# Altium footprint library PTV09.PcbLib: 8 footprints
Each footprint in its own frame and in the unit in brackets; x right, y up, seen from the top. Pads: shape width x height; smd on the part's side, far side on the other; paste and mask are expansions set on the pad; w line width, h text height; cw(c..) or ccw(c..) is an arc to the next point about the centre after c.
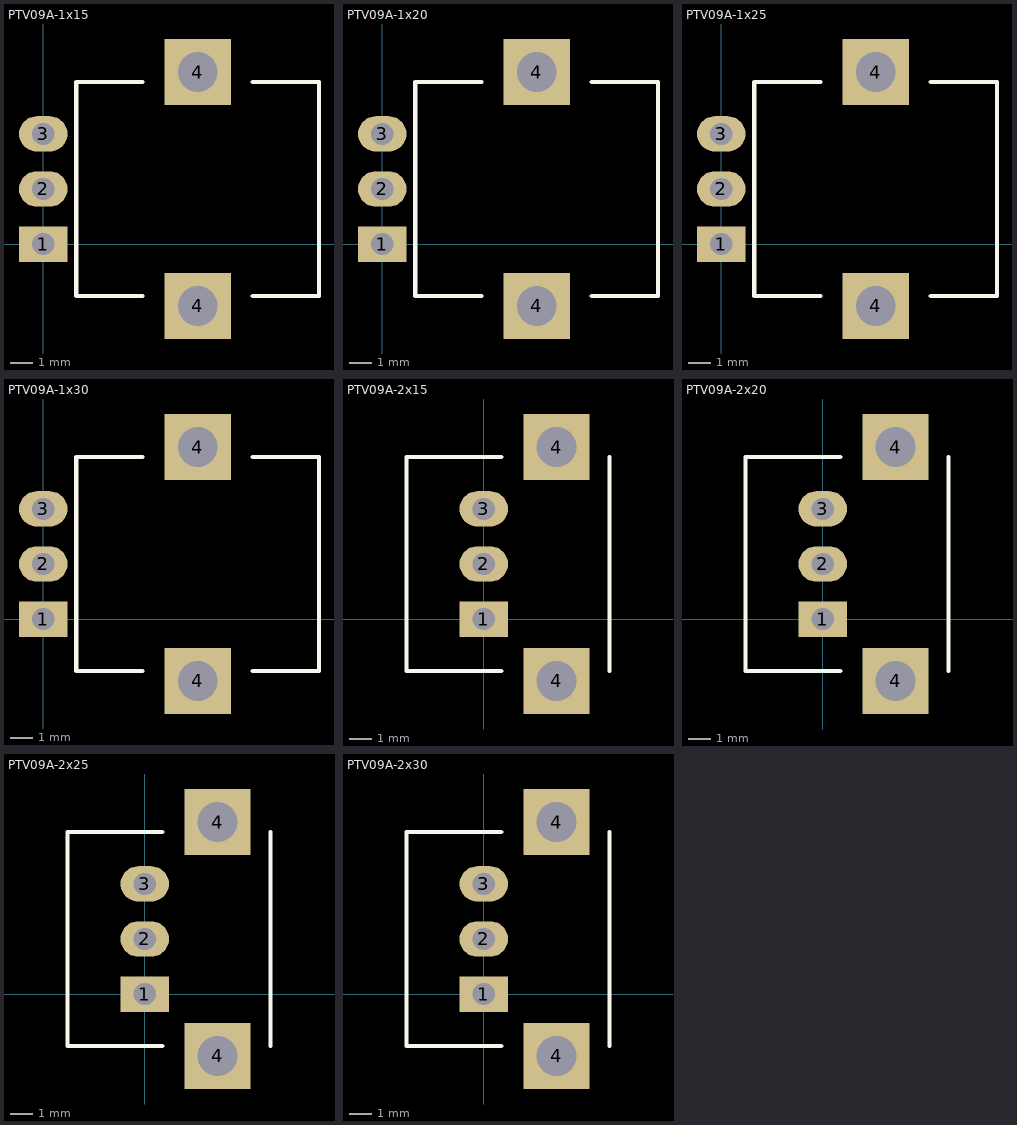
[diagram p0: the footprints below, top view; thin cyan lines are the x and y axes]

## PTV09A-1x15 [mm]
pads (5):
  rect 2.2x1.6 hole 1: 1(0,0)
  oval 2.2x1.6 hole 1: 2(0,2.5) 3(0,5)
  rect 3x3 hole 1.8 square: 4(7,-2.8) 4(7,7.8)
Top Overlay:
  lines w0.2: 4.5,-2.35 1.5,-2.35 1.5,7.35 4.5,7.35 ; 9.5,-2.35 12.5,-2.35 12.5,7.35 9.5,7.35
3D body: height -3, standoff -3.8, extent -0.25,-0.4 0.25,0.4
3D body: height -3, standoff -3.8, extent -0.25,2.1 0.25,2.9
3D body: height -3, standoff -3.8, extent -0.25,4.6 0.25,5.4
3D body: height 15, standoff 2, extent 3.807,-0.698 10.2,5.698
3D body: height 8, standoff 1.2, extent 1.904,-1.949 3.1,-0.751
3D body: height 8, standoff 1.2, extent 10.904,5.751 12.1,6.949
3D body: height 4, standoff 3.5, extent 0,-0.75 1.5,0.75
3D body: height 4, standoff 3.5, extent -0.25,-0.75 0.25,0.75
3D body: height 3.75, standoff 0, extent -0.25,-0.75 0.25,0.75
3D body: height 0, standoff -3.4, extent -0.25,-0.4 0.25,0.4
3D body: height 4, standoff 3.5, extent 0,4.25 1.5,5.75
3D body: height 4, standoff 3.5, extent -0.25,4.25 0.25,5.75
3D body: height 3.75, standoff 0, extent -0.25,4.25 0.25,5.75
3D body: height 0, standoff -3.4, extent -0.25,4.6 0.25,5.4
3D body: height 0, standoff -3.4, extent -0.25,2.1 0.25,2.9
3D body: height 3.75, standoff 0, extent -0.25,1.75 0.25,3.25
3D body: height 4, standoff 3.5, extent -0.25,1.75 0.25,3.25
3D body: height 6.3, standoff 2, extent 1.5,-1.85 12.5,0.7
3D body: height 5.3, standoff 2, extent 1.5,0.7 12.5,4.3
3D body: height 4, standoff 3.5, extent 0,1.75 1.5,3.25
3D body: height -1.8, standoff -3.8, extent 6.001,-2.85 7.999,-2.35
3D body: height 6.8, standoff 2, extent 1.5,-2.35 12.5,-1.85
3D body: height 2, standoff 1, extent 4.25,-2.35 9.75,-1.85
3D body: height 1, standoff 0, extent 8.75,-2.35 9.75,-1.85
3D body: height 1, standoff 0, extent 4.25,-2.35 5.25,-1.85
3D body: height 1.2, standoff -2.8, extent 6,-2.85 8,-2.35
3D body: height 1.7, standoff 0.7, extent 6,-2.849 8,-1.85
3D body: height 2, standoff 1.5, extent 10.75,-2.35 11.5,-1.35
3D body: height 2, standoff 1.5, extent 2.5,-2.35 3.25,-1.35
3D body: height 2, standoff 1.5, extent 10.75,6.35 11.5,7.35
3D body: height 2, standoff 1.5, extent 2.5,6.35 3.25,7.35
3D body: height 1.7, standoff 0.7, extent 6,6.85 8,7.849
3D body: height 1.2, standoff -2.8, extent 6,7.35 8,7.85
3D body: height 1, standoff 0, extent 8.75,6.85 9.75,7.35
3D body: height 1, standoff 0, extent 4.25,6.85 5.25,7.35
3D body: height 2, standoff 1, extent 4.25,6.85 9.75,7.35
3D body: height 6.8, standoff 2, extent 1.5,6.85 12.5,7.35
3D body: height 6.8, standoff 6.3, extent 1.5,-1.85 12.5,6.85
3D body: height 6.3, standoff 2, extent 1.5,4.3 12.5,6.85
3D body: height -1.8, standoff -3.8, extent 6.001,7.35 7.999,7.85
3D body: height 11.3, standoff 6.8, extent 3.604,-0.899 10.4,5.899

## PTV09A-1x20 [mm]
pads (5):
  rect 2.2x1.6 hole 1: 1(0,0)
  oval 2.2x1.6 hole 1: 2(0,2.5) 3(0,5)
  rect 3x3 hole 1.8 square: 4(7,-2.8) 4(7,7.8)
Top Overlay:
  lines w0.2: 4.5,-2.35 1.5,-2.35 1.5,7.35 4.5,7.35 ; 9.5,-2.35 12.5,-2.35 12.5,7.35 9.5,7.35
3D body: height 11.3, standoff 6.8, extent 3.604,-0.899 10.4,5.899
3D body: height -1.8, standoff -3.8, extent 6.001,7.35 7.999,7.85
3D body: height 6.3, standoff 2, extent 1.5,4.3 12.5,6.85
3D body: height 6.8, standoff 6.3, extent 1.5,-1.85 12.5,6.85
3D body: height 6.8, standoff 2, extent 1.5,6.85 12.5,7.35
3D body: height 2, standoff 1, extent 4.25,6.85 9.75,7.35
3D body: height 1, standoff 0, extent 4.25,6.85 5.25,7.35
3D body: height 1, standoff 0, extent 8.75,6.85 9.75,7.35
3D body: height 1.2, standoff -2.8, extent 6,7.35 8,7.85
3D body: height 1.7, standoff 0.7, extent 6,6.85 8,7.849
3D body: height 2, standoff 1.5, extent 2.5,6.35 3.25,7.35
3D body: height 2, standoff 1.5, extent 10.75,6.35 11.5,7.35
3D body: height 2, standoff 1.5, extent 2.5,-2.35 3.25,-1.35
3D body: height 2, standoff 1.5, extent 10.75,-2.35 11.5,-1.35
3D body: height 1.7, standoff 0.7, extent 6,-2.849 8,-1.85
3D body: height 1.2, standoff -2.8, extent 6,-2.85 8,-2.35
3D body: height 1, standoff 0, extent 4.25,-2.35 5.25,-1.85
3D body: height 1, standoff 0, extent 8.75,-2.35 9.75,-1.85
3D body: height 2, standoff 1, extent 4.25,-2.35 9.75,-1.85
3D body: height 6.8, standoff 2, extent 1.5,-2.35 12.5,-1.85
3D body: height -1.8, standoff -3.8, extent 6.001,-2.85 7.999,-2.35
3D body: height 4, standoff 3.5, extent 0,1.75 1.5,3.25
3D body: height 5.3, standoff 2, extent 1.5,0.7 12.5,4.3
3D body: height 6.3, standoff 2, extent 1.5,-1.85 12.5,0.7
3D body: height 4, standoff 3.5, extent -0.25,1.75 0.25,3.25
3D body: height 3.75, standoff 0, extent -0.25,1.75 0.25,3.25
3D body: height 0, standoff -3.4, extent -0.25,2.1 0.25,2.9
3D body: height 0, standoff -3.4, extent -0.25,4.6 0.25,5.4
3D body: height 3.75, standoff 0, extent -0.25,4.25 0.25,5.75
3D body: height 4, standoff 3.5, extent -0.25,4.25 0.25,5.75
3D body: height 4, standoff 3.5, extent 0,4.25 1.5,5.75
3D body: height 0, standoff -3.4, extent -0.25,-0.4 0.25,0.4
3D body: height 3.75, standoff 0, extent -0.25,-0.75 0.25,0.75
3D body: height 4, standoff 3.5, extent -0.25,-0.75 0.25,0.75
3D body: height 4, standoff 3.5, extent 0,-0.75 1.5,0.75
3D body: height 8, standoff 1.2, extent 10.904,5.751 12.1,6.949
3D body: height 8, standoff 1.2, extent 1.904,-1.949 3.1,-0.751
3D body: height 20, standoff 2, extent 3.809,-0.698 10.2,5.698
3D body: height -3, standoff -3.8, extent -0.25,4.6 0.25,5.4
3D body: height -3, standoff -3.8, extent -0.25,2.1 0.25,2.9
3D body: height -3, standoff -3.8, extent -0.25,-0.4 0.25,0.4

## PTV09A-1x25 [mm]
pads (5):
  rect 2.2x1.6 hole 1: 1(0,0)
  oval 2.2x1.6 hole 1: 2(0,2.5) 3(0,5)
  rect 3x3 hole 1.8 square: 4(7,-2.8) 4(7,7.8)
Top Overlay:
  lines w0.2: 4.5,-2.35 1.5,-2.35 1.5,7.35 4.5,7.35 ; 9.5,-2.35 12.5,-2.35 12.5,7.35 9.5,7.35
3D body: height -3, standoff -3.8, extent -0.25,-0.4 0.25,0.4
3D body: height -3, standoff -3.8, extent -0.25,2.1 0.25,2.9
3D body: height -3, standoff -3.8, extent -0.25,4.6 0.25,5.4
3D body: height 25, standoff 2, extent 3.812,-0.697 10.2,5.697
3D body: height 8, standoff 1.2, extent 1.904,-1.949 3.1,-0.751
3D body: height 8, standoff 1.2, extent 10.904,5.751 12.1,6.949
3D body: height 4, standoff 3.5, extent 0,-0.75 1.5,0.75
3D body: height 4, standoff 3.5, extent -0.25,-0.75 0.25,0.75
3D body: height 3.75, standoff 0, extent -0.25,-0.75 0.25,0.75
3D body: height 0, standoff -3.4, extent -0.25,-0.4 0.25,0.4
3D body: height 4, standoff 3.5, extent 0,4.25 1.5,5.75
3D body: height 4, standoff 3.5, extent -0.25,4.25 0.25,5.75
3D body: height 3.75, standoff 0, extent -0.25,4.25 0.25,5.75
3D body: height 0, standoff -3.4, extent -0.25,4.6 0.25,5.4
3D body: height 0, standoff -3.4, extent -0.25,2.1 0.25,2.9
3D body: height 3.75, standoff 0, extent -0.25,1.75 0.25,3.25
3D body: height 4, standoff 3.5, extent -0.25,1.75 0.25,3.25
3D body: height 6.3, standoff 2, extent 1.5,-1.85 12.5,0.7
3D body: height 5.3, standoff 2, extent 1.5,0.7 12.5,4.3
3D body: height 4, standoff 3.5, extent 0,1.75 1.5,3.25
3D body: height -1.8, standoff -3.8, extent 6.001,-2.85 7.999,-2.35
3D body: height 6.8, standoff 2, extent 1.5,-2.35 12.5,-1.85
3D body: height 2, standoff 1, extent 4.25,-2.35 9.75,-1.85
3D body: height 1, standoff 0, extent 8.75,-2.35 9.75,-1.85
3D body: height 1, standoff 0, extent 4.25,-2.35 5.25,-1.85
3D body: height 1.2, standoff -2.8, extent 6,-2.85 8,-2.35
3D body: height 1.7, standoff 0.7, extent 6,-2.849 8,-1.85
3D body: height 2, standoff 1.5, extent 10.75,-2.35 11.5,-1.35
3D body: height 2, standoff 1.5, extent 2.5,-2.35 3.25,-1.35
3D body: height 2, standoff 1.5, extent 10.75,6.35 11.5,7.35
3D body: height 2, standoff 1.5, extent 2.5,6.35 3.25,7.35
3D body: height 1.7, standoff 0.7, extent 6,6.85 8,7.849
3D body: height 1.2, standoff -2.8, extent 6,7.35 8,7.85
3D body: height 1, standoff 0, extent 8.75,6.85 9.75,7.35
3D body: height 1, standoff 0, extent 4.25,6.85 5.25,7.35
3D body: height 2, standoff 1, extent 4.25,6.85 9.75,7.35
3D body: height 6.8, standoff 2, extent 1.5,6.85 12.5,7.35
3D body: height 6.8, standoff 6.3, extent 1.5,-1.85 12.5,6.85
3D body: height 6.3, standoff 2, extent 1.5,4.3 12.5,6.85
3D body: height -1.8, standoff -3.8, extent 6.001,7.35 7.999,7.85
3D body: height 11.3, standoff 6.8, extent 3.604,-0.899 10.4,5.899

## PTV09A-1x30 [mm]
pads (5):
  rect 2.2x1.6 hole 1: 1(0,0)
  oval 2.2x1.6 hole 1: 2(0,2.5) 3(0,5)
  rect 3x3 hole 1.8 square: 4(7,-2.8) 4(7,7.8)
Top Overlay:
  lines w0.2: 4.5,-2.35 1.5,-2.35 1.5,7.35 4.5,7.35 ; 9.5,-2.35 12.5,-2.35 12.5,7.35 9.5,7.35
3D body: height 11.3, standoff 6.8, extent 3.604,-0.899 10.4,5.899
3D body: height -1.8, standoff -3.8, extent 6.001,7.35 7.999,7.85
3D body: height 6.3, standoff 2, extent 1.5,4.3 12.5,6.85
3D body: height 6.8, standoff 6.3, extent 1.5,-1.85 12.5,6.85
3D body: height 6.8, standoff 2, extent 1.5,6.85 12.5,7.35
3D body: height 2, standoff 1, extent 4.25,6.85 9.75,7.35
3D body: height 1, standoff 0, extent 4.25,6.85 5.25,7.35
3D body: height 1, standoff 0, extent 8.75,6.85 9.75,7.35
3D body: height 1.2, standoff -2.8, extent 6,7.35 8,7.85
3D body: height 1.7, standoff 0.7, extent 6,6.85 8,7.849
3D body: height 2, standoff 1.5, extent 2.5,6.35 3.25,7.35
3D body: height 2, standoff 1.5, extent 10.75,6.35 11.5,7.35
3D body: height 2, standoff 1.5, extent 2.5,-2.35 3.25,-1.35
3D body: height 2, standoff 1.5, extent 10.75,-2.35 11.5,-1.35
3D body: height 1.7, standoff 0.7, extent 6,-2.849 8,-1.85
3D body: height 1.2, standoff -2.8, extent 6,-2.85 8,-2.35
3D body: height 1, standoff 0, extent 4.25,-2.35 5.25,-1.85
3D body: height 1, standoff 0, extent 8.75,-2.35 9.75,-1.85
3D body: height 2, standoff 1, extent 4.25,-2.35 9.75,-1.85
3D body: height 6.8, standoff 2, extent 1.5,-2.35 12.5,-1.85
3D body: height -1.8, standoff -3.8, extent 6.001,-2.85 7.999,-2.35
3D body: height 4, standoff 3.5, extent 0,1.75 1.5,3.25
3D body: height 5.3, standoff 2, extent 1.5,0.7 12.5,4.3
3D body: height 6.3, standoff 2, extent 1.5,-1.85 12.5,0.7
3D body: height 4, standoff 3.5, extent -0.25,1.75 0.25,3.25
3D body: height 3.75, standoff 0, extent -0.25,1.75 0.25,3.25
3D body: height 0, standoff -3.4, extent -0.25,2.1 0.25,2.9
3D body: height 0, standoff -3.4, extent -0.25,4.6 0.25,5.4
3D body: height 3.75, standoff 0, extent -0.25,4.25 0.25,5.75
3D body: height 4, standoff 3.5, extent -0.25,4.25 0.25,5.75
3D body: height 4, standoff 3.5, extent 0,4.25 1.5,5.75
3D body: height 0, standoff -3.4, extent -0.25,-0.4 0.25,0.4
3D body: height 3.75, standoff 0, extent -0.25,-0.75 0.25,0.75
3D body: height 4, standoff 3.5, extent -0.25,-0.75 0.25,0.75
3D body: height 4, standoff 3.5, extent 0,-0.75 1.5,0.75
3D body: height 8, standoff 1.2, extent 10.904,5.751 12.1,6.949
3D body: height 8, standoff 1.2, extent 1.904,-1.949 3.1,-0.751
3D body: height 30, standoff 2, extent 3.815,-0.696 10.2,5.696
3D body: height -3, standoff -3.8, extent -0.25,4.6 0.25,5.4
3D body: height -3, standoff -3.8, extent -0.25,2.1 0.25,2.9
3D body: height -3, standoff -3.8, extent -0.25,-0.4 0.25,0.4

## PTV09A-2x15 [mm]
pads (5):
  rect 2.2x1.6 hole 1: 1(0,0)
  oval 2.2x1.6 hole 1: 2(0,2.5) 3(0,5)
  rect 3x3 hole 1.8 square: 4(3.3,-2.8) 4(3.3,7.8)
Top Overlay:
  lines w0.2: 0.8,-2.35 -3.5,-2.35 -3.5,7.35 0.8,7.35 ; 5.7,-2.35 5.7,7.35
3D body: height 14, standoff 6, extent -11.7,-1.499 -4.5,6.499
3D body: height 5.7, standoff 4.7, extent -4.5,-2.4 2.8,-1.402
3D body: height 15.3, standoff 14.3, extent -4.5,6.402 2.8,7.4
3D body: height 14.5, standoff 5.5, extent -4.5,-1.999 -4,6.999
3D body: height 15.5, standoff 3, extent -4,-2.1 -3.5,7.1
3D body: height 8, standoff 3, extent -4,-2.6 -3.5,-2.1
3D body: height 15.5, standoff 12, extent -4,-2.6 -3.5,-2.1
3D body: height 15.5, standoff 12, extent -4,7.1 -3.5,7.6
3D body: height 8, standoff 3, extent -4,7.1 -3.5,7.6
3D body: height 15, standoff 3, extent -3.5,-2.1 2.3,7.1
3D body: height -3, standoff -3.8, extent -0.25,-0.4 0.25,0.4
3D body: height -3, standoff -3.8, extent -0.25,2.1 0.25,2.9
3D body: height -3, standoff -3.8, extent -0.25,4.6 0.25,5.4
3D body: height 3, standoff 0, extent -0.25,-0.75 0.25,0.75
3D body: height 0, standoff -3.4, extent -0.25,-0.4 0.25,0.4
3D body: height 3, standoff 0, extent -0.25,4.25 0.25,5.75
3D body: height 0, standoff -3.4, extent -0.25,4.6 0.25,5.4
3D body: height 0, standoff -3.4, extent -0.25,2.1 0.25,2.9
3D body: height 3, standoff 0, extent -0.25,1.75 0.25,3.25
3D body: height 8, standoff 3, extent -3.5,-2.6 2.275,-2.1
3D body: height -1.8, standoff -3.8, extent 2.3,-2.6 4.299,-2.1
3D body: height 0.8, standoff -2.8, extent 2.3,-2.6 4.3,-2.1
3D body: height 0.8, standoff 0, extent -2.7,-2.6 -1.9,-2.1
3D body: height 0.8, standoff 0, extent 4.9,-2.6 5.7,-2.1
3D body: height 3, standoff 0.8, extent -2.7,-2.6 5.7,-2.1
3D body: height 8, standoff 3, extent -3.5,7.1 2.275,7.6
3D body: height -1.8, standoff -3.8, extent 2.3,7.1 4.299,7.6
3D body: height 0.8, standoff -2.8, extent 2.3,7.1 4.3,7.6
3D body: height 0.8, standoff 0, extent -2.7,7.1 -1.9,7.6
3D body: height 0.8, standoff 0, extent 4.9,7.1 5.7,7.6
3D body: height 3, standoff 0.8, extent -2.7,7.1 5.7,7.6
3D body: height 15.5, standoff 15, extent -3.5,-2.1 2.3,7.1
3D body: height 15.5, standoff 12, extent -3.5,-2.6 2.275,-2.1
3D body: height 15.5, standoff 12, extent -3.5,7.1 2.275,7.6
3D body: height 12, standoff 8, extent -3,7.1 2.275,7.6
3D body: height 12, standoff 8, extent -3,-2.6 2.275,-2.1

## PTV09A-2x20 [mm]
pads (5):
  rect 2.2x1.6 hole 1: 1(0,0)
  oval 2.2x1.6 hole 1: 2(0,2.5) 3(0,5)
  rect 3x3 hole 1.8 square: 4(3.3,-2.8) 4(3.3,7.8)
Top Overlay:
  lines w0.2: 0.8,-2.35 -3.5,-2.35 -3.5,7.35 0.8,7.35 ; 5.7,-2.35 5.7,7.35
3D body: height 14, standoff 6, extent -16.7,-1.5 -4.5,6.5
3D body: height 12, standoff 8, extent -3,-2.6 2.275,-2.1
3D body: height 12, standoff 8, extent -3,7.1 2.275,7.6
3D body: height 15.5, standoff 12, extent -3.5,7.1 2.275,7.6
3D body: height 15.5, standoff 12, extent -3.5,-2.6 2.275,-2.1
3D body: height 15.5, standoff 15, extent -3.5,-2.1 2.3,7.1
3D body: height 3, standoff 0.8, extent -2.7,7.1 5.7,7.6
3D body: height 0.8, standoff 0, extent 4.9,7.1 5.7,7.6
3D body: height 0.8, standoff 0, extent -2.7,7.1 -1.9,7.6
3D body: height 0.8, standoff -2.8, extent 2.3,7.1 4.3,7.6
3D body: height -1.8, standoff -3.8, extent 2.3,7.1 4.299,7.6
3D body: height 8, standoff 3, extent -3.5,7.1 2.275,7.6
3D body: height 3, standoff 0.8, extent -2.7,-2.6 5.7,-2.1
3D body: height 0.8, standoff 0, extent 4.9,-2.6 5.7,-2.1
3D body: height 0.8, standoff 0, extent -2.7,-2.6 -1.9,-2.1
3D body: height 0.8, standoff -2.8, extent 2.3,-2.6 4.3,-2.1
3D body: height -1.8, standoff -3.8, extent 2.3,-2.6 4.299,-2.1
3D body: height 8, standoff 3, extent -3.5,-2.6 2.275,-2.1
3D body: height 3, standoff 0, extent -0.25,1.75 0.25,3.25
3D body: height 0, standoff -3.4, extent -0.25,2.1 0.25,2.9
3D body: height 0, standoff -3.4, extent -0.25,4.6 0.25,5.4
3D body: height 3, standoff 0, extent -0.25,4.25 0.25,5.75
3D body: height 0, standoff -3.4, extent -0.25,-0.4 0.25,0.4
3D body: height 3, standoff 0, extent -0.25,-0.75 0.25,0.75
3D body: height -3, standoff -3.8, extent -0.25,4.6 0.25,5.4
3D body: height -3, standoff -3.8, extent -0.25,2.1 0.25,2.9
3D body: height -3, standoff -3.8, extent -0.25,-0.4 0.25,0.4
3D body: height 15, standoff 3, extent -3.5,-2.1 2.3,7.1
3D body: height 8, standoff 3, extent -4,7.1 -3.5,7.6
3D body: height 15.5, standoff 12, extent -4,7.1 -3.5,7.6
3D body: height 15.5, standoff 12, extent -4,-2.6 -3.5,-2.1
3D body: height 8, standoff 3, extent -4,-2.6 -3.5,-2.1
3D body: height 15.5, standoff 3, extent -4,-2.1 -3.5,7.1
3D body: height 14.5, standoff 5.5, extent -4.5,-1.999 -4,6.999
3D body: height 15.3, standoff 14.3, extent -4.5,6.402 2.8,7.4
3D body: height 5.7, standoff 4.7, extent -4.5,-2.4 2.8,-1.402

## PTV09A-2x25 [mm]
pads (5):
  rect 2.2x1.6 hole 1: 1(0,0)
  oval 2.2x1.6 hole 1: 2(0,2.5) 3(0,5)
  rect 3x3 hole 1.8 square: 4(3.3,-2.8) 4(3.3,7.8)
Top Overlay:
  lines w0.2: 0.8,-2.35 -3.5,-2.35 -3.5,7.35 0.8,7.35 ; 5.7,-2.35 5.7,7.35
3D body: height 12, standoff 8, extent -3,-2.6 2.275,-2.1
3D body: height 12, standoff 8, extent -3,7.1 2.275,7.6
3D body: height 15.5, standoff 12, extent -3.5,7.1 2.275,7.6
3D body: height 15.5, standoff 12, extent -3.5,-2.6 2.275,-2.1
3D body: height 15.5, standoff 15, extent -3.5,-2.1 2.3,7.1
3D body: height 3, standoff 0.8, extent -2.7,7.1 5.7,7.6
3D body: height 0.8, standoff 0, extent 4.9,7.1 5.7,7.6
3D body: height 0.8, standoff 0, extent -2.7,7.1 -1.9,7.6
3D body: height 0.8, standoff -2.8, extent 2.3,7.1 4.3,7.6
3D body: height -1.8, standoff -3.8, extent 2.3,7.1 4.299,7.6
3D body: height 8, standoff 3, extent -3.5,7.1 2.275,7.6
3D body: height 3, standoff 0.8, extent -2.7,-2.6 5.7,-2.1
3D body: height 0.8, standoff 0, extent 4.9,-2.6 5.7,-2.1
3D body: height 0.8, standoff 0, extent -2.7,-2.6 -1.9,-2.1
3D body: height 0.8, standoff -2.8, extent 2.3,-2.6 4.3,-2.1
3D body: height -1.8, standoff -3.8, extent 2.3,-2.6 4.299,-2.1
3D body: height 8, standoff 3, extent -3.5,-2.6 2.275,-2.1
3D body: height 3, standoff 0, extent -0.25,1.75 0.25,3.25
3D body: height 0, standoff -3.4, extent -0.25,2.1 0.25,2.9
3D body: height 0, standoff -3.4, extent -0.25,4.6 0.25,5.4
3D body: height 3, standoff 0, extent -0.25,4.25 0.25,5.75
3D body: height 0, standoff -3.4, extent -0.25,-0.4 0.25,0.4
3D body: height 3, standoff 0, extent -0.25,-0.75 0.25,0.75
3D body: height -3, standoff -3.8, extent -0.25,4.6 0.25,5.4
3D body: height -3, standoff -3.8, extent -0.25,2.1 0.25,2.9
3D body: height -3, standoff -3.8, extent -0.25,-0.4 0.25,0.4
3D body: height 15, standoff 3, extent -3.5,-2.1 2.3,7.1
3D body: height 8, standoff 3, extent -4,7.1 -3.5,7.6
3D body: height 15.5, standoff 12, extent -4,7.1 -3.5,7.6
3D body: height 15.5, standoff 12, extent -4,-2.6 -3.5,-2.1
3D body: height 8, standoff 3, extent -4,-2.6 -3.5,-2.1
3D body: height 15.5, standoff 3, extent -4,-2.1 -3.5,7.1
3D body: height 14.5, standoff 5.5, extent -4.5,-1.999 -4,6.999
3D body: height 15.3, standoff 14.3, extent -4.5,6.402 2.8,7.4
3D body: height 5.7, standoff 4.7, extent -4.5,-2.4 2.8,-1.402
3D body: height 13.99, standoff 6, extent -21.7,-1.498 -4.5,6.498

## PTV09A-2x30 [mm]
pads (5):
  rect 2.2x1.6 hole 1: 1(0,0)
  oval 2.2x1.6 hole 1: 2(0,2.5) 3(0,5)
  rect 3x3 hole 1.8 square: 4(3.3,-2.8) 4(3.3,7.8)
Top Overlay:
  lines w0.2: 0.8,-2.35 -3.5,-2.35 -3.5,7.35 0.8,7.35 ; 5.7,-2.35 5.7,7.35
3D body: height 12, standoff 8, extent -3,-2.6 2.275,-2.1
3D body: height 12, standoff 8, extent -3,7.1 2.275,7.6
3D body: height 15.5, standoff 12, extent -3.5,7.1 2.275,7.6
3D body: height 15.5, standoff 12, extent -3.5,-2.6 2.275,-2.1
3D body: height 15.5, standoff 15, extent -3.5,-2.1 2.3,7.1
3D body: height 3, standoff 0.8, extent -2.7,7.1 5.7,7.6
3D body: height 0.8, standoff 0, extent 4.9,7.1 5.7,7.6
3D body: height 0.8, standoff 0, extent -2.7,7.1 -1.9,7.6
3D body: height 0.8, standoff -2.8, extent 2.3,7.1 4.3,7.6
3D body: height -1.8, standoff -3.8, extent 2.3,7.1 4.299,7.6
3D body: height 8, standoff 3, extent -3.5,7.1 2.275,7.6
3D body: height 3, standoff 0.8, extent -2.7,-2.6 5.7,-2.1
3D body: height 0.8, standoff 0, extent 4.9,-2.6 5.7,-2.1
3D body: height 0.8, standoff 0, extent -2.7,-2.6 -1.9,-2.1
3D body: height 0.8, standoff -2.8, extent 2.3,-2.6 4.3,-2.1
3D body: height -1.8, standoff -3.8, extent 2.3,-2.6 4.299,-2.1
3D body: height 8, standoff 3, extent -3.5,-2.6 2.275,-2.1
3D body: height 3, standoff 0, extent -0.25,1.75 0.25,3.25
3D body: height 0, standoff -3.4, extent -0.25,2.1 0.25,2.9
3D body: height 0, standoff -3.4, extent -0.25,4.6 0.25,5.4
3D body: height 3, standoff 0, extent -0.25,4.25 0.25,5.75
3D body: height 0, standoff -3.4, extent -0.25,-0.4 0.25,0.4
3D body: height 3, standoff 0, extent -0.25,-0.75 0.25,0.75
3D body: height -3, standoff -3.8, extent -0.25,4.6 0.25,5.4
3D body: height -3, standoff -3.8, extent -0.25,2.1 0.25,2.9
3D body: height -3, standoff -3.8, extent -0.25,-0.4 0.25,0.4
3D body: height 15, standoff 3, extent -3.5,-2.1 2.3,7.1
3D body: height 8, standoff 3, extent -4,7.1 -3.5,7.6
3D body: height 15.5, standoff 12, extent -4,7.1 -3.5,7.6
3D body: height 15.5, standoff 12, extent -4,-2.6 -3.5,-2.1
3D body: height 8, standoff 3, extent -4,-2.6 -3.5,-2.1
3D body: height 15.5, standoff 3, extent -4,-2.1 -3.5,7.1
3D body: height 14.5, standoff 5.5, extent -4.5,-1.999 -4,6.999
3D body: height 15.3, standoff 14.3, extent -4.5,6.402 2.8,7.4
3D body: height 5.7, standoff 4.7, extent -4.5,-2.4 2.8,-1.402
3D body: height 14, standoff 6, extent -26.7,-1.489 -4.5,6.489